# Altium footprint library pcblib.PcbLib: 15 footprints
Each footprint in its own frame and in the unit in brackets; x right, y up, seen from the top. Pads: shape width x height; smd on the part's side, far side on the other; paste and mask are expansions set on the pad; w line width, h text height; cw(c..) or ccw(c..) is an arc to the next point about the centre after c.
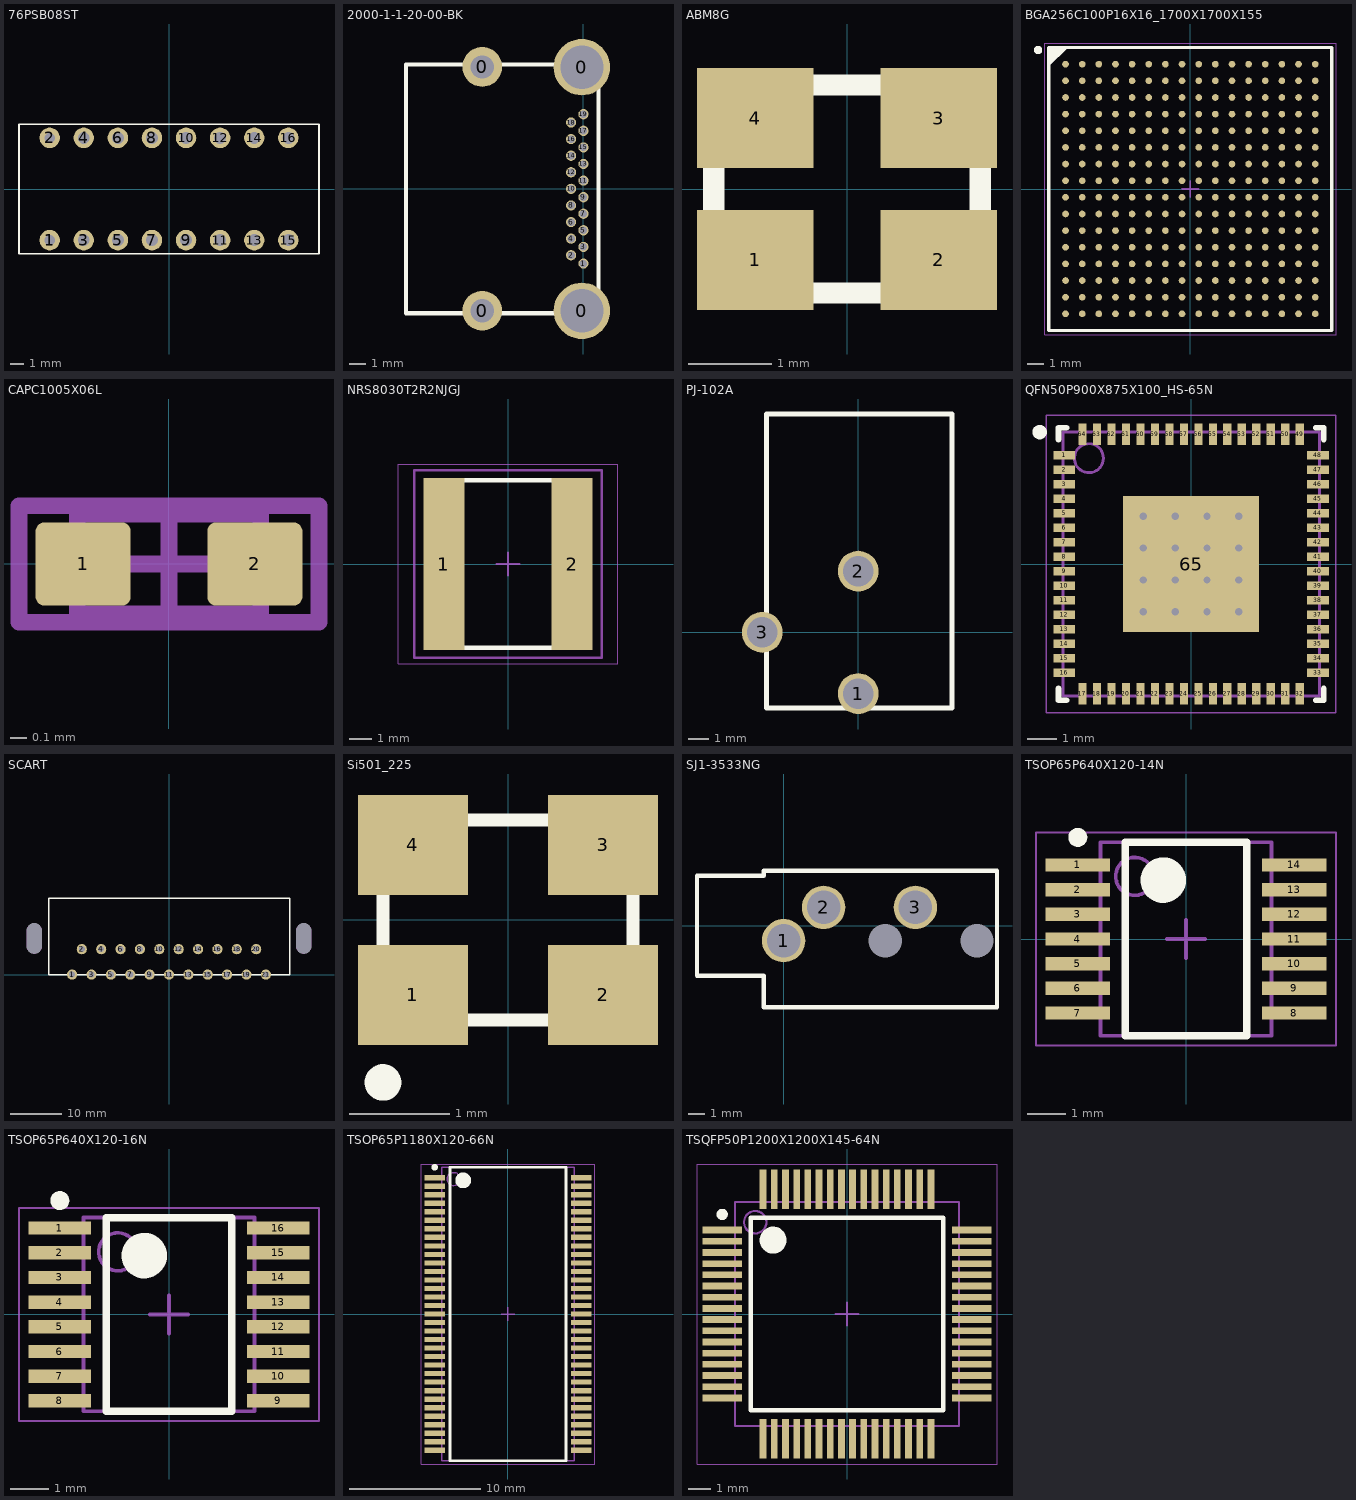
[diagram p0: the footprints below, top view; thin cyan lines are the x and y axes]

## 76PSB08ST [mil]
pads (16):
  round 60 hole 30: 1(-350,-150) 2(-350,150)
  round 60 hole 35: 3(-250,-150) 4(-250,150) 5(-150,-150) 6(-150,150) 7(-50,-150) 8(-50,150) 9(50,-150) 10(50,150) 11(150,-150) 12(150,150) 13(250,-150) 14(250,150) 15(350,-150) 16(350,150)
Top Overlay:
  lines w5: -440,-190 -440,190 440,190 440,-190 -440,-190
3D body: height 281, standoff 0, extent -440,-190 440,190

## 2000-1-1-20-00-BK [mm]
pads (23):
  round 2.4 hole 1.4: 0(-6.1,-7.35)
  rrect100% 2.4x2.4 hole 1.4: 0(-6.1,7.35)
  round 3.4 hole 2.6: 0(-0.1,-7.35)
  rrect100% 3.4x3.4 hole 2.6: 0(-0.1,7.334)
  round 0.619 hole 0.45: 1(0,-4.5) 2(-0.75,-4) 3(0,-3.5) 4(-0.75,-3) 5(0,-2.5) 6(-0.75,-2) 7(0,-1.5) 8(-0.75,-1) 9(0,-0.5) 10(-0.75,0) 11(0,0.5) 12(-0.75,1) 13(0,1.5) 14(-0.75,2) 15(0,2.5) 16(-0.75,3) 17(0,3.5) 18(-0.75,4) 19(0,4.5)
Top Overlay:
  lines w0.254: -10.7,-7.5 -10.7,7.5 0.9,7.5 0.9,-7.5 -10.7,-7.5

## ABM8G [mm]
pads (4):
  rect 1.4x1.2 smd: 1(-1.1,-0.85) 2(1.1,-0.85) 3(1.1,0.85) 4(-1.1,0.85)
Top Overlay:
  lines w0.254: -1.6,-1.25 1.6,-1.25 1.6,1.25 -1.6,1.25 -1.6,-1.25
3D body: height 1, standoff 0, extent -1.6,-1.25 1.6,1.25

## BGA256C100P16X16_1700X1700X155 [mm] "BGA, 256-Leads, Body 17.00x17.00mmx1.55mm, Pitch 1.00mm"
height 1.55
pads (256):
  round 0.4 smd: A1(-7.5,7.5) A2(-6.5,7.5) A3(-5.5,7.5) A4(-4.5,7.5) A5(-3.5,7.5) A6(-2.5,7.5) A7(-1.5,7.5) A8(-0.5,7.5) A9(0.5,7.5) A10(1.5,7.5) A11(2.5,7.5) A12(3.5,7.5) A13(4.5,7.5) A14(5.5,7.5) A15(6.5,7.5) A16(7.5,7.5) B1(-7.5,6.5) B2(-6.5,6.5) B3(-5.5,6.5) B4(-4.5,6.5) B5(-3.5,6.5) B6(-2.5,6.5) B7(-1.5,6.5) B8(-0.5,6.5) B9(0.5,6.5) B10(1.5,6.5) B11(2.5,6.5) B12(3.5,6.5) B13(4.5,6.5) B14(5.5,6.5) B15(6.5,6.5) B16(7.5,6.5) C1(-7.5,5.5) C2(-6.5,5.5) C3(-5.5,5.5) C4(-4.5,5.5) C5(-3.5,5.5) C6(-2.5,5.5) C7(-1.5,5.5) C8(-0.5,5.5) C9(0.5,5.5) C10(1.5,5.5) C11(2.5,5.5) C12(3.5,5.5) C13(4.5,5.5) C14(5.5,5.5) C15(6.5,5.5) C16(7.5,5.5) D1(-7.5,4.5) D2(-6.5,4.5) D3(-5.5,4.5) D4(-4.5,4.5) D5(-3.5,4.5) D6(-2.5,4.5) D7(-1.5,4.5) D8(-0.5,4.5) D9(0.5,4.5) D10(1.5,4.5) D11(2.5,4.5) D12(3.5,4.5) D13(4.5,4.5) D14(5.5,4.5) D15(6.5,4.5) D16(7.5,4.5) E1(-7.5,3.5) E2(-6.5,3.5) E3(-5.5,3.5) E4(-4.5,3.5) E5(-3.5,3.5) E6(-2.5,3.5) E7(-1.5,3.5) E8(-0.5,3.5) E9(0.5,3.5) E10(1.5,3.5) E11(2.5,3.5) E12(3.5,3.5) E13(4.5,3.5) E14(5.5,3.5) E15(6.5,3.5) E16(7.5,3.5) F1(-7.5,2.5) F2(-6.5,2.5) F3(-5.5,2.5) F4(-4.5,2.5) F5(-3.5,2.5) F6(-2.5,2.5) F7(-1.5,2.5) F8(-0.5,2.5) F9(0.5,2.5) F10(1.5,2.5) F11(2.5,2.5) F12(3.5,2.5) F13(4.5,2.5) F14(5.5,2.5) F15(6.5,2.5) F16(7.5,2.5) G1(-7.5,1.5) G2(-6.5,1.5) G3(-5.5,1.5) G4(-4.5,1.5) G5(-3.5,1.5) G6(-2.5,1.5) G7(-1.5,1.5) G8(-0.5,1.5) G9(0.5,1.5) G10(1.5,1.5) G11(2.5,1.5) G12(3.5,1.5) G13(4.5,1.5) G14(5.5,1.5) G15(6.5,1.5) G16(7.5,1.5) H1(-7.5,0.5) H2(-6.5,0.5) H3(-5.5,0.5) H4(-4.5,0.5) H5(-3.5,0.5) H6(-2.5,0.5) H7(-1.5,0.5) H8(-0.5,0.5) H9(0.5,0.5) H10(1.5,0.5) H11(2.5,0.5) H12(3.5,0.5) H13(4.5,0.5) H14(5.5,0.5) H15(6.5,0.5) H16(7.5,0.5) J1(-7.5,-0.5) J2(-6.5,-0.5) J3(-5.5,-0.5) J4(-4.5,-0.5) J5(-3.5,-0.5) J6(-2.5,-0.5) J7(-1.5,-0.5) J8(-0.5,-0.5) J9(0.5,-0.5) J10(1.5,-0.5) J11(2.5,-0.5) J12(3.5,-0.5) J13(4.5,-0.5) J14(5.5,-0.5) J15(6.5,-0.5) J16(7.5,-0.5) K1(-7.5,-1.5) K2(-6.5,-1.5) K3(-5.5,-1.5) K4(-4.5,-1.5) K5(-3.5,-1.5) K6(-2.5,-1.5) K7(-1.5,-1.5) K8(-0.5,-1.5) K9(0.5,-1.5) K10(1.5,-1.5) K11(2.5,-1.5) K12(3.5,-1.5) K13(4.5,-1.5) K14(5.5,-1.5) K15(6.5,-1.5) K16(7.5,-1.5) L1(-7.5,-2.5) L2(-6.5,-2.5) L3(-5.5,-2.5) L4(-4.5,-2.5) L5(-3.5,-2.5) L6(-2.5,-2.5) L7(-1.5,-2.5) L8(-0.5,-2.5) L9(0.5,-2.5) L10(1.5,-2.5) L11(2.5,-2.5) L12(3.5,-2.5) L13(4.5,-2.5) L14(5.5,-2.5) L15(6.5,-2.5) L16(7.5,-2.5) M1(-7.5,-3.5) M2(-6.5,-3.5) M3(-5.5,-3.5) M4(-4.5,-3.5) M5(-3.5,-3.5) M6(-2.5,-3.5) M7(-1.5,-3.5) M8(-0.5,-3.5) M9(0.5,-3.5) M10(1.5,-3.5) M11(2.5,-3.5) M12(3.5,-3.5) M13(4.5,-3.5) M14(5.5,-3.5) M15(6.5,-3.5) M16(7.5,-3.5) N1(-7.5,-4.5) N2(-6.5,-4.5) N3(-5.5,-4.5) N4(-4.5,-4.5) N5(-3.5,-4.5) N6(-2.5,-4.5) N7(-1.5,-4.5) N8(-0.5,-4.5) N9(0.5,-4.5) N10(1.5,-4.5) N11(2.5,-4.5) N12(3.5,-4.5) N13(4.5,-4.5) N14(5.5,-4.5) N15(6.5,-4.5) N16(7.5,-4.5) P1(-7.5,-5.5) P2(-6.5,-5.5) P3(-5.5,-5.5) P4(-4.5,-5.5) P5(-3.5,-5.5) P6(-2.5,-5.5) P7(-1.5,-5.5) P8(-0.5,-5.5) P9(0.5,-5.5) P10(1.5,-5.5) P11(2.5,-5.5) P12(3.5,-5.5) P13(4.5,-5.5) P14(5.5,-5.5) P15(6.5,-5.5) P16(7.5,-5.5) R1(-7.5,-6.5) R2(-6.5,-6.5) R3(-5.5,-6.5) R4(-4.5,-6.5) R5(-3.5,-6.5) R6(-2.5,-6.5) R7(-1.5,-6.5) R8(-0.5,-6.5) R9(0.5,-6.5) R10(1.5,-6.5) R11(2.5,-6.5) R12(3.5,-6.5) R13(4.5,-6.5) R14(5.5,-6.5) R15(6.5,-6.5) R16(7.5,-6.5) T1(-7.5,-7.5) T2(-6.5,-7.5) T3(-5.5,-7.5) T4(-4.5,-7.5) T5(-3.5,-7.5) T6(-2.5,-7.5) T7(-1.5,-7.5) T8(-0.5,-7.5) T9(0.5,-7.5) T10(1.5,-7.5) T11(2.5,-7.5) T12(3.5,-7.5) T13(4.5,-7.5) T14(5.5,-7.5) T15(6.5,-7.5) T16(7.5,-7.5)
Top Overlay:
  circle w0.25: c-9.15,8.35 r0.125
  region: -7.5,8.5 -8.5,7.5 -8.5,8.5
  lines w0.2: -8.5,7.5 -7.5,8.5 ; -8.5,-8.5 -8.5,8.5 8.5,8.5 8.5,-8.5 -8.5,-8.5
Mechanical 13:
  lines w0.1: -8.5,-8.5 -8.5,8.5 8.5,8.5 8.5,-8.5 -8.5,-8.5
Mechanical 15:
  lines w0.05: -8.75,-8.75 -8.75,8.75 8.75,8.75 8.75,-8.75 -8.75,-8.75
  lines w0.1: -0.5,0 0.5,0 ; 0,-0.5 0,0.5
3D body: height 1.55, standoff 0.3, extent -8.5,-8.5 8.5,8.5

## CAPC1005X06L [mm] "Chip Capacitor, 2-Leads, Body 1,0x0,5mm, IPC High Density"
height 0.6
pads (2):
  rrect20% 0.57x0.5 smd: 1(-0.515,0) 2(0.515,0)
Mechanical 13:
  lines w0.1: -0.55,-0.3 -0.55,0.3 0.55,0.3 0.55,-0.3 -0.55,-0.3
Mechanical 15:
  lines w0.1: -0.3,0 0.3,0 ; 0,-0.3 0,0.3 ; -0.9,-0.35 -0.9,0.35 0.9,0.35 0.9,-0.35 -0.9,-0.35
3D body: height 0.6, standoff 0, extent -0.55,-0.3 0.55,0.3

## NRS8030T2R2NJGJ [mm] "Chip Inductor, 2-Leads, Body 8.00x8.00mm, IPC Medium Density"
height 3
pads (2):
  rect 1.8x7.5 smd: 1(-2.8,0) 2(2.8,0)
Top Overlay:
  lines w0.2: -1.95,-3.65 1.95,-3.65 ; -1.95,3.65 1.95,3.65
Mechanical 13:
  lines w0.1: -4.1,-4.1 -4.1,4.1 4.1,4.1 4.1,-4.1 -4.1,-4.1
Mechanical 15:
  lines w0.05: -4.8,-4.35 -4.8,4.35 4.8,4.35 4.8,-4.35 -4.8,-4.35
  lines w0.1: -0.5,0 0.5,0 ; 0,-0.5 0,0.5
3D body: height 3, standoff 0, extent -2.3,-4.1 2.3,4.1
3D body: height 3, standoff 0, extent -4.1,-4.1 -2.3,4.1
3D body: height 3, standoff 0, extent 2.3,-4.1 4.1,4.1

## PJ-102A [mm]
pads (3):
  round 2 hole 1.5: 1(0,-3) 2(0,3) 3(-4.7,0)
Top Overlay:
  lines w0.254: -4.5,-3.7 -4.5,10.7 4.6,10.7 4.6,-3.7 -4.5,-3.7
3D body: height 11.5, standoff -3, extent -4.825,-3.625 4.575,10.775

## QFN50P900X875X100_HS-65N [mm] "QFN, 64-Leads, Body 9.00x8.75mm, Pitch 0.50mm, Thermal Pad 4.70x4.70mm, IPC Medium Density"
height 1
pads (65):
  rect 0.75x0.28 smd mask+0.051: 1(-4.375,3.75) 2(-4.375,3.25) 3(-4.375,2.75) 4(-4.375,2.25) 5(-4.375,1.75) 6(-4.375,1.25) 7(-4.375,0.75) 8(-4.375,0.25) 9(-4.375,-0.25) 10(-4.375,-0.75) 11(-4.375,-1.25) 12(-4.375,-1.75) 13(-4.375,-2.25) 14(-4.375,-2.75) 15(-4.375,-3.25) 16(-4.375,-3.75) 33(4.375,-3.75) 34(4.375,-3.25) 35(4.375,-2.75) 36(4.375,-2.25) 37(4.375,-1.75) 38(4.375,-1.25) 39(4.375,-0.75) 40(4.375,-0.25) 41(4.375,0.25) 42(4.375,0.75) 43(4.375,1.25) 44(4.375,1.75) 45(4.375,2.25) 46(4.375,2.75) 47(4.375,3.25) 48(4.375,3.75)
  rect 0.28x0.75 smd mask+0.051: 17(-3.75,-4.475) 18(-3.25,-4.475) 19(-2.75,-4.475) 20(-2.25,-4.475) 21(-1.75,-4.475) 22(-1.25,-4.475) 23(-0.75,-4.475) 24(-0.25,-4.475) 25(0.25,-4.475) 26(0.75,-4.475) 27(1.25,-4.475) 28(1.75,-4.475) 29(2.25,-4.475) 30(2.75,-4.475) 31(3.25,-4.475) 32(3.75,-4.475) 49(3.75,4.475) 50(3.25,4.475) 51(2.75,4.475) 52(2.25,4.475) 53(1.75,4.475) 54(1.25,4.475) 55(0.75,4.475) 56(0.25,4.475) 57(-0.25,4.475) 58(-0.75,4.475) 59(-1.25,4.475) 60(-1.75,4.475) 61(-2.25,4.475) 62(-2.75,4.475) 63(-3.25,4.475) 64(-3.75,4.475)
  rect 4.7x4.7 smd paste-1816.05: 65(0,0)
via -1.65,1.65 diameter 0.457 hole 0.254
via -0.55,1.65 diameter 0.457 hole 0.254
via 0.55,1.65 diameter 0.457 hole 0.254
via 1.65,1.65 diameter 0.457 hole 0.254
via -1.65,0.55 diameter 0.457 hole 0.254
via -0.55,0.55 diameter 0.457 hole 0.254
via 0.55,0.55 diameter 0.457 hole 0.254
via 1.65,0.55 diameter 0.457 hole 0.254
via -1.65,-0.55 diameter 0.457 hole 0.254
via -0.55,-0.55 diameter 0.457 hole 0.254
via 0.55,-0.55 diameter 0.457 hole 0.254
via 1.65,-0.55 diameter 0.457 hole 0.254
via -1.65,-1.65 diameter 0.457 hole 0.254
via -0.55,-1.65 diameter 0.457 hole 0.254
via 0.55,-1.65 diameter 0.457 hole 0.254
via 1.65,-1.65 diameter 0.457 hole 0.254
Top Overlay:
  circle w0.25: c-5.225,4.55 r0.125
  lines w0.2: -4.575,-4.3 -4.575,-4.7 -4.3,-4.7 ; -4.575,4.3 -4.575,4.7 -4.3,4.7 ; 4.3,-4.7 4.575,-4.7 4.575,-4.3 ; 4.3,4.7 4.575,4.7 4.575,4.3
Top Paste:
  rectangle: 0.2,1.4 1,2.2
  rectangle: 1.4,1.4 2.2,2.2
  rectangle: -1,1.4 -0.2,2.2
  rectangle: -2.2,1.4 -1.4,2.2
  rectangle: -2.2,0.2 -1.4,1
  rectangle: -1,0.2 -0.2,1
  rectangle: 1.4,0.2 2.2,1
  rectangle: 0.2,0.2 1,1
  rectangle: -2.2,-1 -1.4,-0.2
  rectangle: -1,-1 -0.2,-0.2
  rectangle: 1.4,-1 2.2,-0.2
  rectangle: 0.2,-1 1,-0.2
  rectangle: -2.2,-2.2 -1.4,-1.4
  rectangle: -1,-2.2 -0.2,-1.4
  rectangle: 1.4,-2.2 2.2,-1.4
  rectangle: 0.2,-2.2 1,-1.4
Mechanical 13:
  circle w0.1: c-3.525,3.65 r0.5
  lines w0.1: -4.425,-4.55 -4.425,4.55 4.425,4.55 4.425,-4.55 -4.425,-4.55
Mechanical 15:
  lines w0.05: -5,-5.125 -5,5.125 5,5.125 5,-5.125 -5,-5.125
  lines w0.1: -0.5,0 0.5,0 ; 0,-0.5 0,0.5
3D body: height 1, standoff 0.02, extent -4.425,-4.55 4.425,4.55

## SCART [mm]
pads (26):
  round 2 hole 1.2: 1(-19.05,0) 2(-17.145,5) 3(-15.24,0) 4(-13.335,5) 5(-11.43,0) 6(-9.525,5) 7(-7.62,0) 8(-5.715,5) 9(-3.81,0) 10(-1.905,5) 11(0,0) 12(1.905,5) 13(3.81,0) 14(5.715,5) 15(7.62,0) 16(9.525,5) 17(11.43,0) 18(13.335,5) 19(15.24,0) 20(17.145,5) 21(19.05,0)
  round 1.524 hole 3 slot 6 at 90 deg unplated: ""(-26.5,7.1) ""(26.5,7.1)
  oval 3x6 on Keep-Out: ""(-26.5,7.1)
  rrect100% 3x6 on Keep-Out: ""(-26.5,7.1) ""(26.5,7.1)
Top Overlay:
  lines w0.254: -23.6,0 -23.6,15 23.749,15 23.749,0 -23.6,0

## Si501_225 [mm]
pads (4):
  rect 1.1x1 smd: 1(-0.95,-0.75) 2(0.95,-0.75) 3(0.95,0.75) 4(-0.95,0.75)
Top Overlay:
  circle w0.254: c-1.25,-1.625 r0.056
  lines w0.127: -1.25,-1 1.25,-1 1.25,1 -1.25,1 -1.25,-1
3D body: height 0.9, standoff 0, extent -1.25,-1 1.25,1

## SJ1-3533NG [mm]
pads (5):
  round 2.6 hole 2: 1(0,-0.9) 2(2.4,1.1) 3(7.9,1.1)
  round 0 hole 2: 5(6.1,-0.9) 5(11.6,-0.9)
Top Overlay:
  lines w0.254: -5.2,-3 -5.2,3 -1.2,3 -1.2,3.3 12.8,3.3 12.8,-4.9 -1.2,-4.9 -1.2,-3 -5.2,-3
3D body: height 12.3, standoff -3.3, extent -5.175,-4.875 12.875,3.325

## TSOP65P640X120-14N [mm] "TSOP, 14-Leads, Body 5.00x4.40mm, Pitch 0.65mm, IPC Medium Density"
height 1.2
pads (14):
  rect 1.7x0.35 smd mask+0.051: 1(-2.85,1.95) 2(-2.85,1.3) 3(-2.85,0.65) 4(-2.85,0) 5(-2.85,-0.65) 6(-2.85,-1.3) 7(-2.85,-1.95) 8(2.85,-1.95) 9(2.85,-1.3) 10(2.85,-0.65) 11(2.85,0) 12(2.85,0.65) 13(2.85,1.3) 14(2.85,1.95)
Top Overlay:
  circle w0.25: c-2.85,2.675 r0.125
  circle w0.6: c-0.6,1.55 r0.3
  lines w0.2: -1.6,-2.55 -1.6,2.55 1.6,2.55 1.6,-2.55 -1.6,-2.55
Mechanical 13:
  circle w0.1: c-1.35,1.65 r0.5
  lines w0.1: -2.25,-2.55 -2.25,2.55 2.25,2.55 2.25,-2.55 -2.25,-2.55
Mechanical 15:
  lines w0.05: -3.95,-2.8 -3.95,2.8 3.95,2.8 3.95,-2.8 -3.95,-2.8
  lines w0.1: -0.5,0 0.5,0 ; 0,-0.5 0,0.5
3D body: height 1.2, standoff 0.05, extent -2.25,-2.55 2.25,2.55

## TSOP65P640X120-16N [mm] "TSOP, 16-Leads, Body 5.00x4.40mm, Pitch 0.65mm, IPC Medium Density"
height 1.2
pads (16):
  rect 1.65x0.35 smd mask+0.051: 1(-2.875,2.275) 2(-2.875,1.625) 3(-2.875,0.975) 4(-2.875,0.325) 5(-2.875,-0.325) 6(-2.875,-0.975) 7(-2.875,-1.625) 8(-2.875,-2.275) 9(2.875,-2.275) 10(2.875,-1.625) 11(2.875,-0.975) 12(2.875,-0.325) 13(2.875,0.325) 14(2.875,0.975) 15(2.875,1.625) 16(2.875,2.275)
Top Overlay:
  circle w0.6: c-0.65,1.55 r0.3
  circle w0.25: c-2.875,3 r0.125
  lines w0.2: -1.65,-2.55 1.65,-2.55 1.65,2.55 -1.65,2.55 -1.65,-2.55
Mechanical 13:
  circle w0.1: c-1.35,1.65 r0.5
  lines w0.1: -2.25,-2.55 2.25,-2.55 2.25,2.55 -2.25,2.55 -2.25,-2.55
Mechanical 15:
  lines w0.05: -3.95,-2.8 3.95,-2.8 3.95,2.8 -3.95,2.8 -3.95,-2.8
  lines w0.1: -0.5,0 0.5,0 ; 0,-0.5 0,0.5
3D body: height 1.2, standoff 0.05, extent -2.25,-2.55 2.25,2.55

## TSOP65P1180X120-66N [mm] "TSOP, 66-Leads, Body 22.22x10.06mm, Pitch 0.65mm, IPC Medium Density"
height 1.2
pads (66):
  rect 1.55x0.4 smd mask+0.051: 1(-5.6,10.4) 2(-5.6,9.75) 3(-5.6,9.1) 4(-5.6,8.45) 5(-5.6,7.8) 6(-5.6,7.15) 7(-5.6,6.5) 8(-5.6,5.85) 9(-5.6,5.2) 10(-5.6,4.55) 11(-5.6,3.9) 12(-5.6,3.25) 13(-5.6,2.6) 14(-5.6,1.95) 15(-5.6,1.3) 16(-5.6,0.65) 17(-5.6,0) 18(-5.6,-0.65) 19(-5.6,-1.3) 20(-5.6,-1.95) 21(-5.6,-2.6) 22(-5.6,-3.25) 23(-5.6,-3.9) 24(-5.6,-4.55) 25(-5.6,-5.2) 26(-5.6,-5.85) 27(-5.6,-6.5) 28(-5.6,-7.15) 29(-5.6,-7.8) 30(-5.6,-8.45) 31(-5.6,-9.1) 32(-5.6,-9.75) 33(-5.6,-10.4) 34(5.6,-10.4) 35(5.6,-9.75) 36(5.6,-9.1) 37(5.6,-8.45) 38(5.6,-7.8) 39(5.6,-7.15) 40(5.6,-6.5) 41(5.6,-5.85) 42(5.6,-5.2) 43(5.6,-4.55) 44(5.6,-3.9) 45(5.6,-3.25) 46(5.6,-2.6) 47(5.6,-1.95) 48(5.6,-1.3) 49(5.6,-0.65) 50(5.6,0) 51(5.6,0.65) 52(5.6,1.3) 53(5.6,1.95) 54(5.6,2.6) 55(5.6,3.25) 56(5.6,3.9) 57(5.6,4.55) 58(5.6,5.2) 59(5.6,5.85) 60(5.6,6.5) 61(5.6,7.15) 62(5.6,7.8) 63(5.6,8.45) 64(5.6,9.1) 65(5.6,9.75) 66(5.6,10.4)
Top Overlay:
  circle w0.25: c-5.6,11.2 r0.125
  circle w0.6: c-3.425,10.2 r0.3
  lines w0.2: -4.425,-11.2 -4.425,11.2 4.425,11.2 4.425,-11.2 -4.425,-11.2
Mechanical 13:
  circle w0.1: c-4.15,10.3 r0.5
  lines w0.1: -5.05,-11.2 -5.05,11.2 5.05,11.2 5.05,-11.2 -5.05,-11.2
Mechanical 15:
  lines w0.05: -6.625,-11.45 -6.625,11.45 6.625,11.45 6.625,-11.45 -6.625,-11.45
  lines w0.1: -0.5,0 0.5,0 ; 0,-0.5 0,0.5
3D body: height 1.2, standoff 0.05, extent -5.05,-11.2 5.05,11.2

## TSQFP50P1200X1200X145-64N [mm] "TSQFP, 64-Leads, Body 10.00x10.00mm, Pitch 0.50mm, IPC Medium Density"
height 1.45
pads (64):
  rect 1.75x0.3 smd mask+0.051: 1(-5.575,3.75) 2(-5.575,3.25) 3(-5.575,2.75) 4(-5.575,2.25) 5(-5.575,1.75) 6(-5.575,1.25) 7(-5.575,0.75) 8(-5.575,0.25) 9(-5.575,-0.25) 10(-5.575,-0.75) 11(-5.575,-1.25) 12(-5.575,-1.75) 13(-5.575,-2.25) 14(-5.575,-2.75) 15(-5.575,-3.25) 16(-5.575,-3.75) 33(5.575,-3.75) 34(5.575,-3.25) 35(5.575,-2.75) 36(5.575,-2.25) 37(5.575,-1.75) 38(5.575,-1.25) 39(5.575,-0.75) 40(5.575,-0.25) 41(5.575,0.25) 42(5.575,0.75) 43(5.575,1.25) 44(5.575,1.75) 45(5.575,2.25) 46(5.575,2.75) 47(5.575,3.25) 48(5.575,3.75)
  rect 0.3x1.75 smd mask+0.051: 17(-3.75,-5.575) 18(-3.25,-5.575) 19(-2.75,-5.575) 20(-2.25,-5.575) 21(-1.75,-5.575) 22(-1.25,-5.575) 23(-0.75,-5.575) 24(-0.25,-5.575) 25(0.25,-5.575) 26(0.75,-5.575) 27(1.25,-5.575) 28(1.75,-5.575) 29(2.25,-5.575) 30(2.75,-5.575) 31(3.25,-5.575) 32(3.75,-5.575) 49(3.75,5.575) 50(3.25,5.575) 51(2.75,5.575) 52(2.25,5.575) 53(1.75,5.575) 54(1.25,5.575) 55(0.75,5.575) 56(0.25,5.575) 57(-0.25,5.575) 58(-0.75,5.575) 59(-1.25,5.575) 60(-1.75,5.575) 61(-2.25,5.575) 62(-2.75,5.575) 63(-3.25,5.575) 64(-3.75,5.575)
Top Overlay:
  circle w0.25: c-5.575,4.45 r0.125
  circle w0.6: c-3.3,3.3 r0.3
  lines w0.2: -4.3,-4.3 -4.3,4.3 4.3,4.3 4.3,-4.3 -4.3,-4.3
Mechanical 13:
  circle w0.1: c-4.1,4.1 r0.5
  lines w0.1: -5,-5 -5,5 5,5 5,-5 -5,-5
Mechanical 15:
  lines w0.05: -6.7,-6.7 -6.7,6.7 6.7,6.7 6.7,-6.7 -6.7,-6.7
  lines w0.1: -0.5,0 0.5,0 ; 0,-0.5 0,0.5
3D body: height 1.45, standoff 0.05, extent -5,-5 5,5